# Altium schematic symbol library 天线座.SchLib: 3 symbols
Pins are listed as number, name and electrical type; pins without a type are passive.

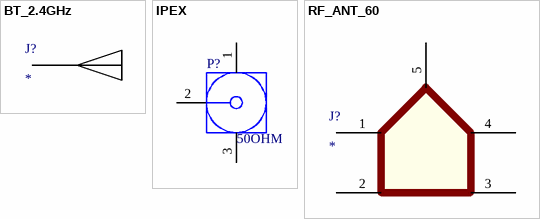
[diagram p0: symbols BT_2.4GHz to RF_ANT_60]

## BT_2.4GHz
designator J?
蓝牙单极子天线
footprint BT_ANT
pins: 1 (oc)

## IPEX
designator P?, comment 50OHM
RF Coaxial PCB Connector, MCX; Thru-Hole, Right-Angle Mount Socket, Blunt Post Terminal, 50 Ohm Impedance; PCB_Layout: Complies with manufacturer's recommendation.; DrillSize: Corresponds to nominal value.; Published: 15-Jul-2004; LatestRevisionDate: 15-Jul-2004; LatestRevisionNote: Component Replaced.; DatasheetDocument: 30-May-2003; PackageDocument: 04-Jul-1999; PackageReference: 919-119J-51AX; Publisher: Altium Limited; ComponentLink1Description: Manufacturer Link; ComponentLink1URL: http://www.amphenolrf.com/
footprint IPEX
pins: 1 "Signal Pin", 2 "Signal Pin", 3 "Signal Pin"

## RF_ANT_60
designator J?
footprint SMA-KWE/90°
pins: 1, 2, 3, 4, 5